# EAGLE library part FT2232HL (library micromousev2Parts)
Dual High Speed USB UART/FIFO IC, LQFP64 FTDI Chip FT2232HL Dual UART Interface RS232, RS422, RS485 480Mbit/s, 64-Pin, LQFP Source: Datasheet <http://docs-europe.electrocomponents.com/webdocs/1384/0900766b81384546.pdf>
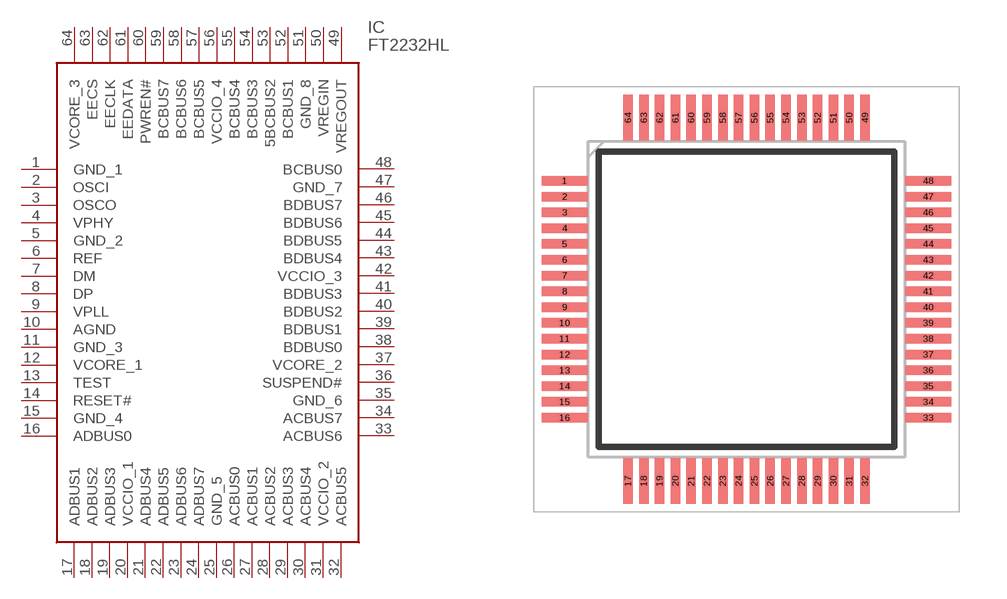
[diagram p1: symbol with the pads of QFP50P1200X1200X160-64N; footprint QFP50P1200X1200X160-64N]

Designator prefix IC

## FT2232HL (ARROW_PART_NUMBER: FT2232HL; ARROW_PRICE/STOCK: http://uk.rs-online.com/web/p/products/1709070; DESCRIPTION: Dual High Speed USB UART/FIFO IC, LQFP64 FTDI Chip FT2232HL Dual UART Interface RS232, RS422, RS485 480Mbit/s, 64-Pin, LQFP; HEIGHT: 1.6mm; MANUFACTURER_NAME: FTDI Chip; MANUFACTURER_PART_NUMBER: FT2232HL; RS_PART_NUMBER: 1709070; RS_PRICE/STOCK: http://uk.rs-online.com/web/p/products/1709070)  [QFP50P1200X1200X160-64N]
1  GND_1  pwr
2  OSCI  in
3  OSCO  out
4  VPHY  pwr
5  GND_2  pwr
6  REF  in
7  DM  in
8  DP  in
9  VPLL  pwr
10  AGND  pwr
11  GND_3  pwr
12  VCORE_1  pwr
13  TEST  in
14  RESET#  in
15  GND_4  pwr
16  ADBUS0
17  ADBUS1
18  ADBUS2
19  ADBUS3
20  VCCIO_1  pwr
21  ADBUS4
22  ADBUS5
23  ADBUS6
24  ADBUS7
25  GND_5  pwr
26  ACBUS0
27  ACBUS1
28  ACBUS2
29  ACBUS3
30  ACBUS4
31  VCCIO_2  pwr
32  ACBUS5
33  ACBUS6
34  ACBUS7
35  GND_6  pwr
36  SUSPEND#  out
37  VCORE_2  pwr
38  BDBUS0
39  BDBUS1
40  BDBUS2
41  BDBUS3
42  VCCIO_3  pwr
43  BDBUS4
44  BDBUS5
45  BDBUS6
46  BDBUS7
47  GND_7  pwr
48  BCBUS0
49  VREGOUT  pwr
50  VREGIN  pwr
51  GND_8  pwr
52  BCBUS1
53  5BCBUS2
54  BCBUS3
55  BCBUS4
56  VCCIO_4  pwr
57  BCBUS5
58  BCBUS6
59  BCBUS7  in
60  PWREN#  out
61  EEDATA
62  EECLK  out
63  EECS
64  VCORE_3  pwr

## Footprint QFP50P1200X1200X160-64N (pad centres in mm)
LQFP64
smd 1.45 x 0.3: 1 -5.75,3.75; 2 -5.75,3.25; 3 -5.75,2.75; 4 -5.75,2.25; 5 -5.75,1.75; 6 -5.75,1.25; 7 -5.75,0.75; 8 -5.75,0.25; 9 -5.75,-0.25; 10 -5.75,-0.75; 11 -5.75,-1.25; 12 -5.75,-1.75; 13 -5.75,-2.25; 14 -5.75,-2.75; 15 -5.75,-3.25; 16 -5.75,-3.75; 33 5.75,-3.75; 34 5.75,-3.25; 35 5.75,-2.75; 36 5.75,-2.25; 37 5.75,-1.75; 38 5.75,-1.25; 39 5.75,-0.75; 40 5.75,-0.25; 41 5.75,0.25; 42 5.75,0.75; 43 5.75,1.25; 44 5.75,1.75; 45 5.75,2.25; 46 5.75,2.75; 47 5.75,3.25; 48 5.75,3.75
smd 0.3 x 1.45: 17 -3.75,-5.75; 18 -3.25,-5.75; 19 -2.75,-5.75; 20 -2.25,-5.75; 21 -1.75,-5.75; 22 -1.25,-5.75; 23 -0.75,-5.75; 24 -0.25,-5.75; 25 0.25,-5.75; 26 0.75,-5.75; 27 1.25,-5.75; 28 1.75,-5.75; 29 2.25,-5.75; 30 2.75,-5.75; 31 3.25,-5.75; 32 3.75,-5.75; 49 3.75,5.75; 50 3.25,5.75; 51 2.75,5.75; 52 2.25,5.75; 53 1.75,5.75; 54 1.25,5.75; 55 0.75,5.75; 56 0.25,5.75; 57 -0.25,5.75; 58 -0.75,5.75; 59 -1.25,5.75; 60 -1.75,5.75; 61 -2.25,5.75; 62 -2.75,5.75; 63 -3.25,5.75; 64 -3.75,5.75